# Altium footprint library PcbLib1.PcbLib: 95 footprints (part 6 of 6)
Each footprint in its own frame and in the unit in brackets; x right, y up, seen from the top. Pads: shape width x height; smd on the part's side, far side on the other; paste and mask are expansions set on the pad; w line width, h text height; cw(c..) or ccw(c..) is an arc to the next point about the centre after c.
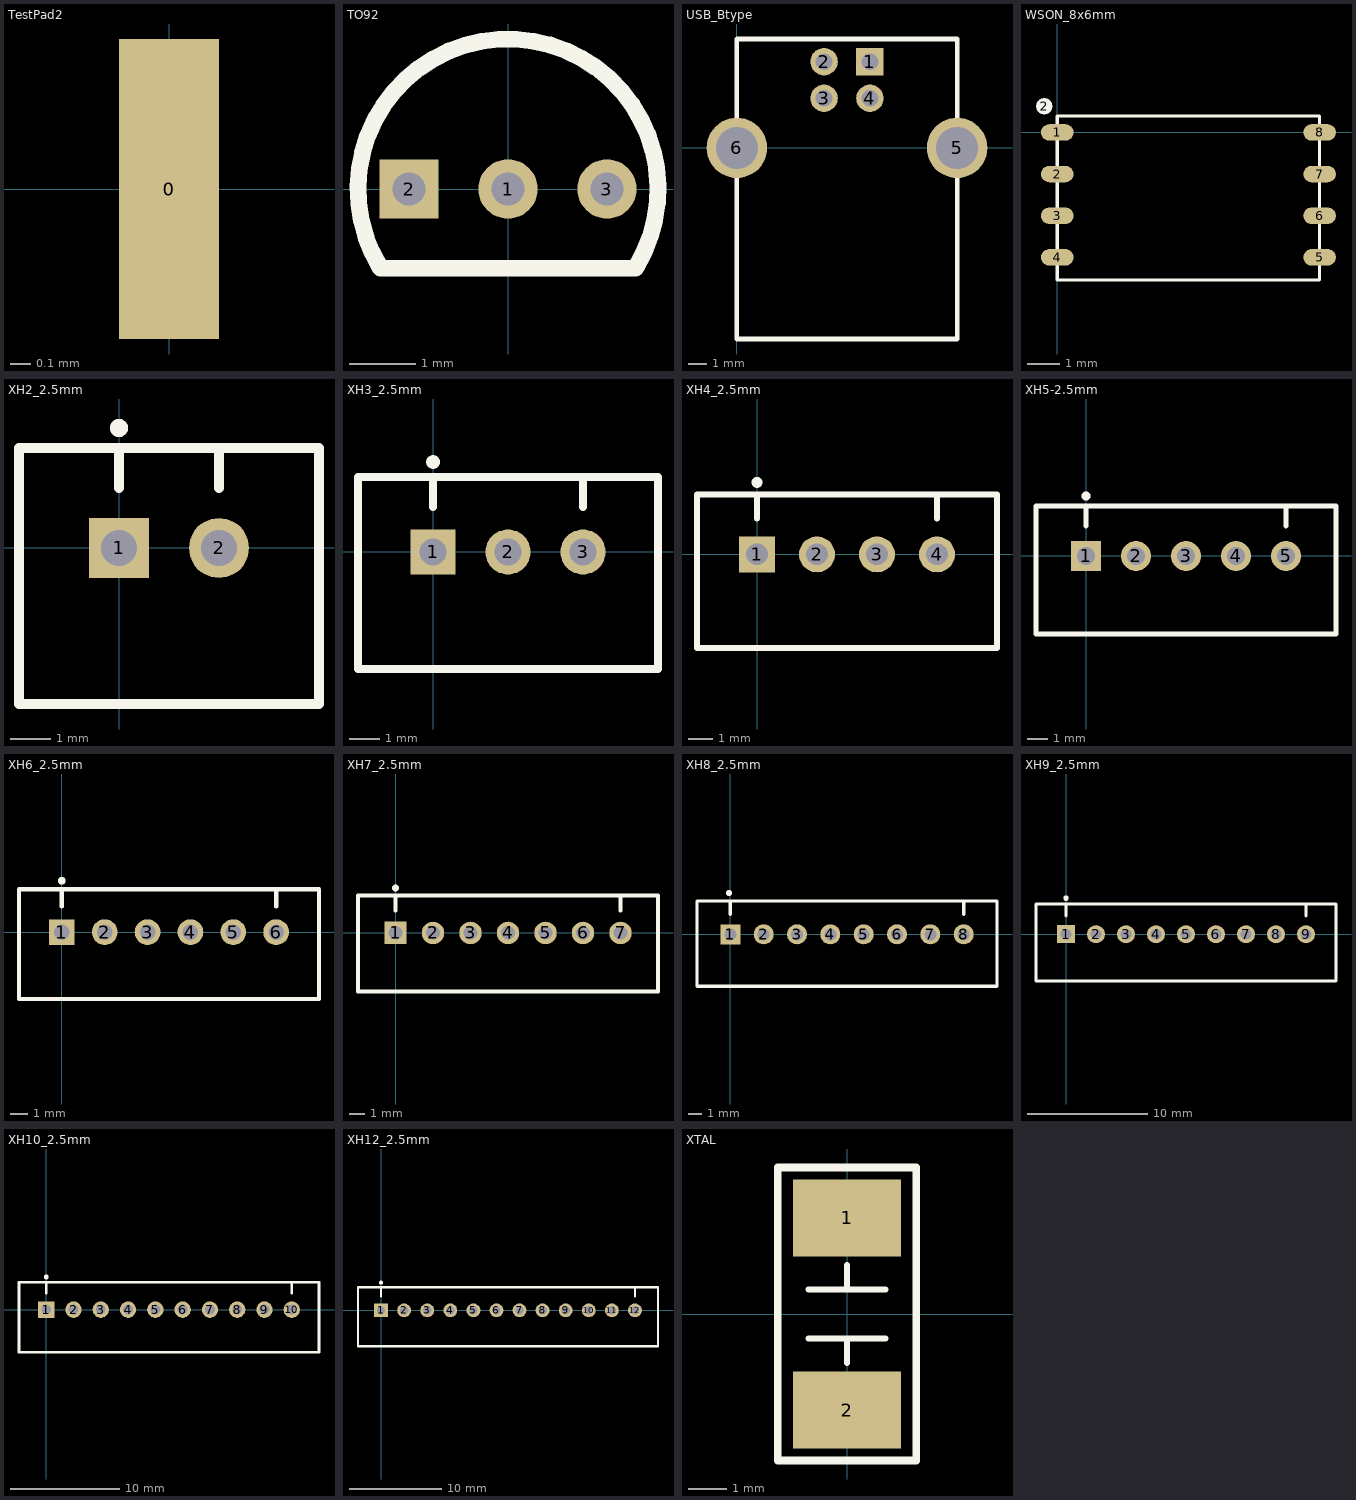
[diagram p5: the footprints below, top view; thin cyan lines are the x and y axes]

## TestPad2 [mm]
pads (1):
  rect 0.5x1.5 smd: 0(0,0)

## TO92 [mm]
pads (3):
  round 0.9 hole 0.5: 1(0,0) 3(1.5,0)
  rect 0.9x0.9 hole 0.5: 2(-1.5,0)
Top Overlay:
  lines w0.254: 1.937,-1.2 -1.93,-1.2 cw(c0,0) 1.937,-1.189

## USB_Btype [mm]
pads (6):
  rect 1.5x1.5 hole 0.92: 1(7.27,4.71)
  round 1.5 hole 0.92: 2(4.77,4.71) 3(4.77,2.71) 4(7.27,2.71)
  round 3.3 hole 2.3: 5(12.04,0) 6(0,0)
Top Overlay:
  lines w0.254: 0,5.92 0,-10.45 12.05,-10.45 ; 0,5.95 12.05,5.95 ; 12.04,-10.45 12.04,5.95

## WSON_8x6mm [mm]
pads (9):
  oval 1x0.5 smd: 1(0,0) 2(0,-1.27) 3(0,-2.54) 4(0,-3.81) 5(8,-3.81) 6(8,-2.54) 7(8,-1.27) 8(8,0)
  round 0.5 on Top Overlay: 2(-0.4,0.8)
Top Overlay:
  lines w0.1: 0,-4.5 0,0.5 8,0.5 8,-4.5 0,-4.5

## XH2_2.5mm [mm] "W5.9mm"
height 7
pads (2):
  rect 1.5x1.5 hole 0.9: 1(0,0)
  round 1.5 hole 0.9: 2(2.5,0)
Top Overlay:
  circle w0.254: c0,3 r0.1
  lines w0.254: 0,1.5 0,2.5 ; 2.5,1.5 2.5,2.5 ; -2.5,-3.9 5,-3.9 5,2.5 -2.5,2.5 -2.5,-3.9
3D body: height 7, standoff -3, extent 2.159,-0.279 2.845,0.279
3D body: height 7, standoff -3, extent -0.33,-0.305 0.33,0.305
3D body: height 7, standoff 0, extent 0.508,2.159 2.032,2.362
3D body: height 7, standoff 0, extent -2.388,-3.785 4.851,2.362
3D body: height 1, standoff 0, extent -2.388,-3.785 4.851,2.362

## XH3_2.5mm [mm] "W5.9mm"
height 7
pads (3):
  rect 1.5x1.5 hole 0.9: 1(0,0)
  round 1.5 hole 0.9: 2(2.5,0) 3(5,0)
Top Overlay:
  circle w0.254: c0,3 r0.1
  lines w0.254: 0,1.5 0,2.5 ; 5,1.5 5,2.5 ; -2.5,-3.9 -2.5,2.5 7.5,2.5 7.5,-3.9 -2.5,-3.9
3D body: height 1, standoff 0, extent -2.286,-3.683 7.239,2.286
3D body: height 7, standoff 0, extent -2.286,-3.683 7.239,2.286
3D body: height 7, standoff 0, extent 0.381,2.032 4.572,2.286
3D body: height 7, standoff -3, extent -0.254,-0.254 0.254,0.254
3D body: height 7, standoff -3, extent 2.286,-0.254 2.794,0.254
3D body: height 7, standoff -3, extent 4.699,-0.254 5.334,0.254

## XH4_2.5mm [mm] "W5.9mm"
height 7
pads (4):
  rect 1.5x1.5 hole 0.9: 1(0,0)
  round 1.5 hole 0.9: 2(2.5,0) 3(5,0) 4(7.5,0)
Top Overlay:
  circle w0.254: c0,3 r0.1
  lines w0.254: 0,1.5 0,2.5 ; 7.5,1.5 7.5,2.5 ; -2.5,-3.9 10,-3.9 10,2.5 -2.5,2.5 -2.5,-3.9
3D body: height 7, standoff -3, extent 7.239,-0.254 7.747,0.254
3D body: height 7, standoff -3, extent 4.699,-0.254 5.207,0.254
3D body: height 7, standoff -3, extent 2.286,-0.254 2.794,0.254
3D body: height 7, standoff -3, extent -0.254,-0.254 0.254,0.254
3D body: height 7, standoff 0, extent 0.381,2.032 7.112,2.286
3D body: height 7, standoff 0, extent -2.286,-3.683 9.779,2.286
3D body: height 1, standoff 0, extent -2.286,-3.683 9.779,2.286

## XH5-2.5mm [mm]
pads (5):
  rect 1.5x1.5 hole 0.9: 1(0,0)
  round 1.5 hole 0.9: 2(2.5,0) 3(5,0) 4(7.5,0) 5(10,0)
Top Overlay:
  circle w0.254: c0,3 r0.1
  lines w0.254: 0,1.5 0,2.5 ; 10,1.5 10,2.5 ; -2.5,-3.9 -2.5,2.5 12.5,2.5 12.5,-3.9 -2.5,-3.9
3D body: height 7, standoff -3, extent 9.779,-0.254 10.287,0.254
3D body: height 7, standoff -3, extent 7.239,-0.254 7.747,0.254
3D body: height 7, standoff -3, extent 4.699,-0.254 5.334,0.254
3D body: height 7, standoff -3, extent 2.286,-0.254 2.794,0.254
3D body: height 7, standoff -3, extent -0.254,-0.254 0.254,0.254
3D body: height 7, standoff 0, extent 0.381,2.032 9.652,2.286
3D body: height 7, standoff 0, extent -2.286,-3.683 12.319,2.286
3D body: height 1, standoff 0, extent -2.286,-3.683 12.319,2.286

## XH6_2.5mm [mm] "W5.9mm"
height 7
pads (6):
  rect 1.5x1.5 hole 0.9: 1(0,0)
  round 1.5 hole 0.9: 2(2.5,0) 3(5,0) 4(7.5,0) 5(10,0) 6(12.5,0)
Top Overlay:
  circle w0.254: c0,3 r0.1
  lines w0.254: 0,1.5 0,2.5 ; 12.5,1.5 12.5,2.5 ; -2.5,-3.9 -2.5,2.5 15,2.5 15,-3.9 -2.5,-3.9
3D body: height 7, standoff -3, extent 12.192,-0.254 12.827,0.254
3D body: height 7, standoff -3, extent 9.779,-0.254 10.287,0.254
3D body: height 7, standoff -3, extent 7.239,-0.254 7.747,0.254
3D body: height 7, standoff -3, extent 4.699,-0.254 5.334,0.254
3D body: height 7, standoff -3, extent 2.286,-0.254 2.794,0.254
3D body: height 7, standoff -3, extent -0.254,-0.254 0.254,0.254
3D body: height 7, standoff 0, extent 0.381,2.032 12.065,2.286
3D body: height 7, standoff 0, extent -2.286,-3.683 14.732,2.286
3D body: height 1, standoff 0, extent -2.286,-3.683 14.732,2.286

## XH7_2.5mm [mm]
pads (7):
  rect 1.5x1.5 hole 0.9: 1(0,0)
  round 1.5 hole 0.9: 2(2.5,0) 3(5,0) 4(7.5,0) 5(10,0) 6(12.5,0) 7(15,0)
Top Overlay:
  circle w0.254: c0,3 r0.1
  lines w0.254: 0,1.5 0,2.5 ; 15,1.5 15,2.5 ; -2.5,-3.9 -2.5,2.5 17.5,2.5 17.5,-3.9 -2.5,-3.9
3D body: height 7, standoff -3, extent 12.395,-0.483 13.03,0.025
3D body: height 7, standoff -3, extent 14.683,-0.254 15.318,0.254
3D body: height 7, standoff -3, extent 9.779,-0.254 10.287,0.254
3D body: height 7, standoff -3, extent 7.239,-0.254 7.747,0.254
3D body: height 7, standoff -3, extent 4.699,-0.254 5.334,0.254
3D body: height 7, standoff -3, extent 2.286,-0.254 2.794,0.254
3D body: height 7, standoff -3, extent -0.254,-0.254 0.254,0.254
3D body: height 7, standoff 0, extent 0.381,2.032 14.605,2.286
3D body: height 7, standoff 0, extent -2.286,-3.683 17.297,2.286
3D body: height 1, standoff 0, extent -2.286,-3.683 17.297,2.286

## XH8_2.5mm [mm] "W5.9mm"
height 7
pads (8):
  rect 1.5x1.5 hole 0.9: 1(0,0)
  round 1.5 hole 0.9: 2(2.5,0) 3(5,0) 4(7.5,0) 5(10,0) 6(12.5,0) 7(15,0) 8(17.5,0)
Top Overlay:
  circle w0.254: c-0.1,3.1 r0.1
  lines w0.254: 0,1.5 0,2.5 ; 17.5,1.5 17.5,2.5 ; -2.5,-3.9 -2.5,2.5 20,2.5 20,-3.9 -2.5,-3.9
3D body: height 1, standoff 0, extent -2.286,-3.683 19.812,2.286
3D body: height 7, standoff 0, extent -2.286,-3.683 19.812,2.286
3D body: height 7, standoff 0, extent 0.381,2.032 17.145,2.286
3D body: height 7, standoff -3, extent -0.254,-0.254 0.254,0.254
3D body: height 7, standoff -3, extent 2.286,-0.254 2.794,0.254
3D body: height 7, standoff -3, extent 4.699,-0.254 5.207,0.254
3D body: height 7, standoff -3, extent 7.239,-0.254 7.747,0.254
3D body: height 7, standoff -3, extent 9.779,-0.254 10.287,0.254
3D body: height 7, standoff -3, extent 12.319,-0.254 12.827,0.254
3D body: height 7, standoff -3, extent 14.732,-0.254 15.24,0.254
3D body: height 7, standoff -3, extent 17.272,-0.254 17.78,0.254

## XH9_2.5mm [mm] "W5.9mm"
height 7
pads (9):
  rect 1.5x1.5 hole 0.9: 1(0,0)
  round 1.5 hole 0.9: 2(2.5,0) 3(5,0) 4(7.5,0) 5(10,0) 6(12.5,0) 7(15,0) 8(17.5,0) 9(20,0)
Top Overlay:
  circle w0.254: c0,3 r0.1
  lines w0.254: 0,1.5 0,2.5 ; 20,1.5 20,2.5 ; -2.5,-3.9 -2.5,2.5 22.5,2.5 22.5,-3.9 -2.5,-3.9
3D body: height 1, standoff 0, extent -2.286,-3.683 22.225,2.286
3D body: height 7, standoff 0, extent -2.286,-3.683 22.225,2.286
3D body: height 7, standoff 0, extent 0.381,2.032 19.685,2.286
3D body: height 7, standoff -3, extent -0.254,-0.254 0.254,0.254
3D body: height 7, standoff -3, extent 2.286,-0.254 2.794,0.254
3D body: height 7, standoff -3, extent 4.699,-0.254 5.334,0.254
3D body: height 7, standoff -3, extent 7.239,-0.254 7.747,0.254
3D body: height 7, standoff -3, extent 9.779,-0.254 10.287,0.254
3D body: height 7, standoff -3, extent 12.192,-0.254 12.7,0.254
3D body: height 7, standoff -3, extent 14.732,-0.254 15.24,0.254
3D body: height 7, standoff -3, extent 17.272,-0.254 17.78,0.254
3D body: height 7, standoff -3, extent 19.685,-0.254 20.32,0.254

## XH10_2.5mm [mm] "W5.9mm"
height 7
pads (10):
  rect 1.5x1.5 hole 0.9: 1(0,0)
  round 1.5 hole 0.9: 2(2.5,0) 3(5,0) 4(7.5,0) 5(10,0) 6(12.5,0) 7(15,0) 8(17.5,0) 9(20,0) 10(22.5,0)
Top Overlay:
  circle w0.254: c0,3 r0.1
  lines w0.254: 0,1.5 0,2.5 ; 22.5,1.5 22.5,2.5 ; -2.5,-3.9 -2.5,2.5 25,2.5 25,-3.9 -2.5,-3.9
3D body: height 1, standoff 0, extent -2.286,-3.683 24.765,2.286
3D body: height 7, standoff 0, extent -2.286,-3.683 24.765,2.286
3D body: height 7, standoff 0, extent 0.381,2.032 22.098,2.286
3D body: height 7, standoff -3, extent -0.254,-0.254 0.254,0.254
3D body: height 7, standoff -3, extent 2.286,-0.254 2.794,0.254
3D body: height 7, standoff -3, extent 4.826,-0.254 5.334,0.254
3D body: height 7, standoff -3, extent 7.239,-0.254 7.747,0.254
3D body: height 7, standoff -3, extent 9.779,-0.254 10.287,0.254
3D body: height 7, standoff -3, extent 12.192,-0.254 12.7,0.254
3D body: height 7, standoff -3, extent 14.732,-0.254 15.24,0.254
3D body: height 7, standoff -3, extent 17.272,-0.254 17.78,0.254
3D body: height 7, standoff -3, extent 19.685,-0.254 20.32,0.254
3D body: height 7, standoff -3, extent 22.225,-0.254 22.733,0.254

## XH12_2.5mm [mm]
pads (12):
  rect 1.5x1.5 hole 0.9: 1(0,0)
  round 1.5 hole 0.9: 2(2.5,0) 3(5,0) 4(7.5,0) 5(10,0) 6(12.5,0) 7(15,0) 8(17.5,0) 9(20,0) 10(22.5,0) 11(25,0) 12(27.5,0)
Top Overlay:
  circle w0.254: c0,3 r0.1
  lines w0.254: 0,1.5 0,2.5 ; 27.5,1.5 27.5,2.5 ; -2.5,-3.9 -2.5,2.5 30,2.5 30,-3.9 -2.5,-3.9
3D body: height 1, standoff 0, extent -2.286,-3.683 29.718,2.286
3D body: height 7, standoff 0, extent -2.286,-3.683 29.718,2.286
3D body: height 7, standoff 0, extent 0.381,2.032 27.051,2.286
3D body: height 7, standoff -3, extent -0.254,-0.254 0.254,0.254
3D body: height 7, standoff -3, extent 2.286,-0.254 2.794,0.254
3D body: height 7, standoff -3, extent 4.826,-0.254 5.334,0.254
3D body: height 7, standoff -3, extent 7.239,-0.254 7.747,0.254
3D body: height 7, standoff -3, extent 9.779,-0.254 10.287,0.254
3D body: height 7, standoff -3, extent 12.192,-0.254 12.7,0.254
3D body: height 7, standoff -3, extent 14.732,-0.254 15.24,0.254
3D body: height 7, standoff -3, extent 17.272,-0.254 17.78,0.254
3D body: height 7, standoff -3, extent 19.685,-0.254 20.32,0.254
3D body: height 7, standoff -3, extent 22.225,-0.254 22.733,0.254
3D body: height 7, standoff -3, extent 24.725,-0.254 25.233,0.254
3D body: height 7, standoff -3, extent 27.225,-0.254 27.733,0.254

## XTAL [mm]
pads (2):
  rect 2.8x2 smd: 1(0,2.5) 2(0,-2.5)
Top Overlay:
  lines w0.152: -1,-0.635 1,-0.635 ; -1,0.635 1,0.635 ; 0,-1.27 0,-0.635 ; 0,0.635 0,1.27
  lines w0.2: -1.8,-3.81 -1.8,3.81 1.8,3.81 1.8,-3.81 -1.8,-3.81